# Altium footprint library Capacitor_0402.PcbLib: 1 footprints
Each footprint in its own frame and in the unit in brackets; x right, y up, seen from the top. Pads: shape width x height; smd on the part's side, far side on the other; paste and mask are expansions set on the pad; w line width, h text height; cw(c..) or ccw(c..) is an arc to the next point about the centre after c.
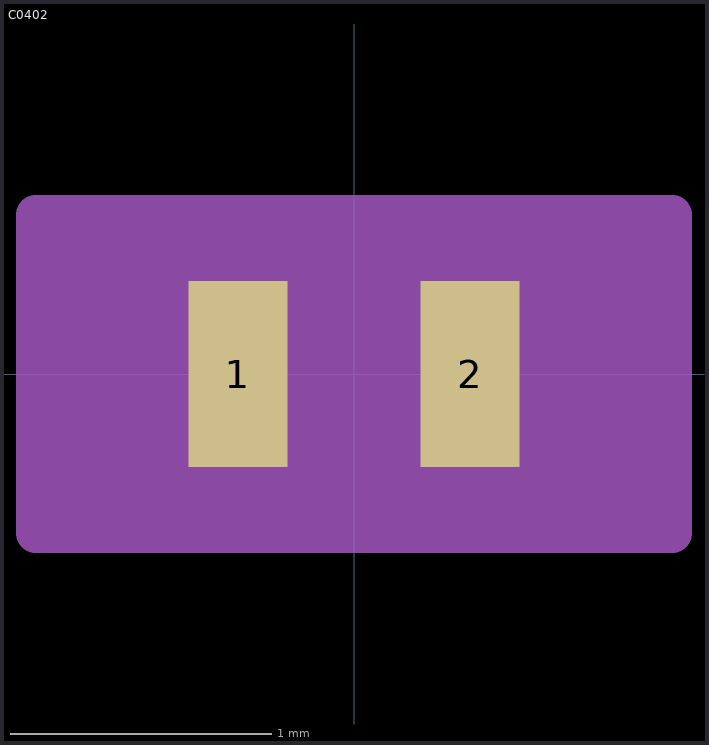
[diagram p0: the footprint, top view; thin cyan lines are the x and y axes]

## C0402 [mil]
pads (2):
  rect 15x28 smd paste+0 mask+0: 1(-17.5,0) 2(17.5,0)
Mechanical 13:
  lines w1: -24,-14 -24,14 ; -24,-14 24,-14 ; -24,-14 -8,-14 -8,14 -24,14 ; -24,-14 -24,14 ; -24,14 24,14 ; 24,-14 24,14 ; 24,-14 24,14 ; 24,-14 8,-14 8,14 24,14
Mechanical 15:
  region: 48,-24 -48,-24 -48,24 48,24
  lines w6: -48,-24 48,-24 48,24 -48,24 -48,-24
3D body "CAP_0402_X5R_E_AVX.step": height 27.99, standoff 0, extent -24.02,-14.02 24.02,14.02